# Altium integrated library Net.IntLib: 14 symbols
Pins are listed as number, name and electrical type; pins without a type are passive.

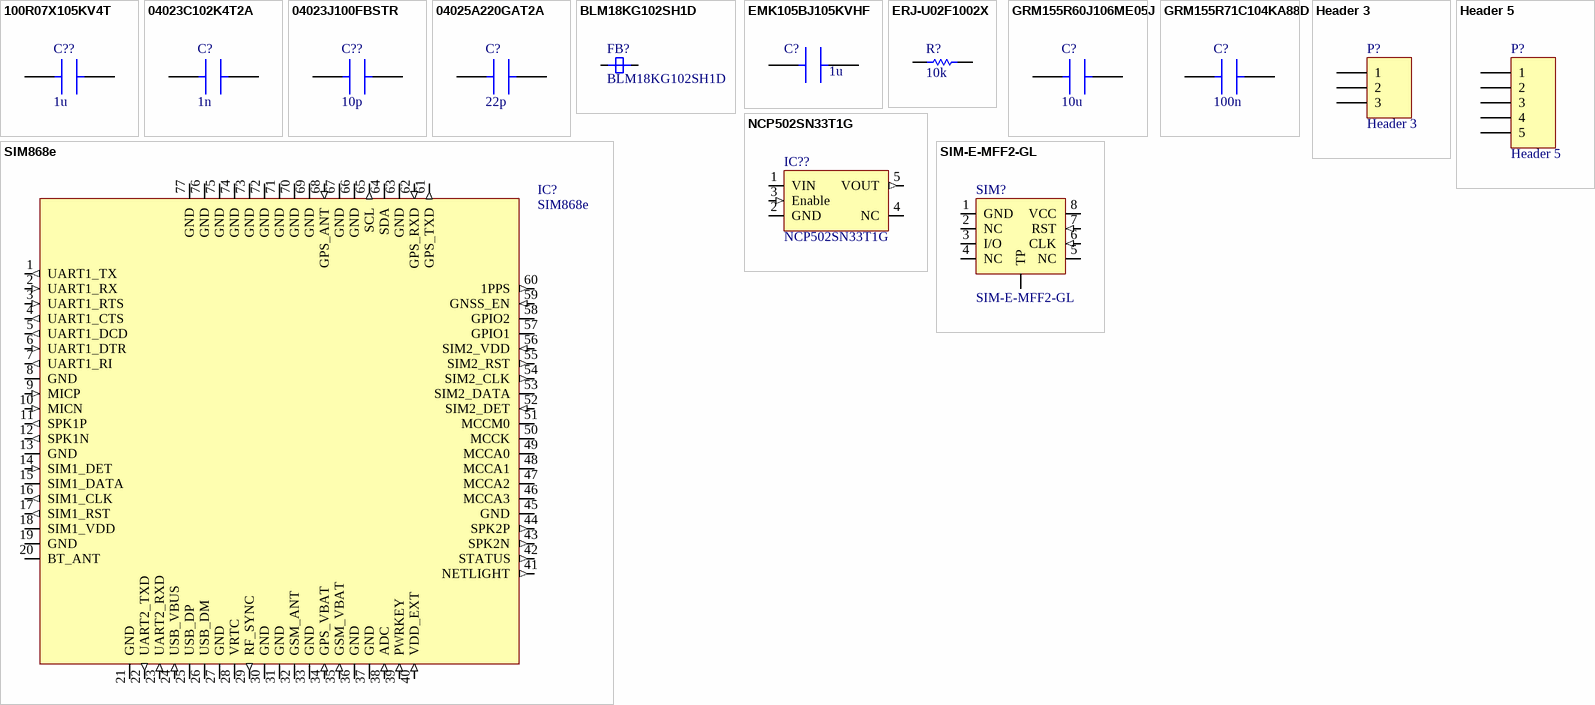
[diagram p0: symbols 100R07X105KV4T to SIM-E-MFF2-GL]

## 100R07X105KV4T
designator C??, comment 1u
Cap Ceramic 1uF 10V X5R 10% SMD 0402 85C T/R LOW ESR; Manufacturer: Johanson; Manufacturer Part Number: 100R07X105KV4T; Supplier 1: Mouser; RoHS: Yes; Category: Ceramic Capacitors; Stock 1: 216743; Pricing 1: 1=0,26000, 10=0,13400, 50=0,13400, 100=0,07600, 1000=0,04900, 10000=0,04000 (USD); Mount: Surface Mount; Case/Package: 0402; Number of Pins: 2; Case Code (Metric): 1005; Case Code (Imperial): 0402; Weight: 2.3E-05oz; Min Operating Temperature: -55°C; Max Operating Temperature: 85°C; Capacitance: 1uF; Tolerance: 10%; Voltage Rating: 10V; Packaging: Tape and Reel; Package Quantity: 10000; Voltage Rating (DC): 10V; Dielectric: X5R; Termination: SMD/SMT; Series: TANCERAM®; Length: 1.02mm; Width: 0.02inch; Height: 0.64mm; Thickness: 0.025inch; Depth: 0.51mm; Radiation Hardening: No; REACH SVHC: No SVHC; RoHS Compliant: Yes; ComponentLink1URL: https://datasheet.ciiva.com/22693/jdi-full-catalog-2012-01-22693744.pdf?src-supplier=Element14; ComponentLink1Description: https://datasheet.ciiva.com/22693/jdi-full-catalog-2012-01-22693744.pdf?src-supplier=Element14; ComponentLink2URL: https://datasheet.ciiva.com/26948/getdatasheetpartid-789067-26948543.pdf?src-supplier=Verical; ComponentLink2Description: https://datasheet.ciiva.com/26948/getdatasheetpartid-789067-26948543.pdf?src-supplier=Verical; Supplier Part Number 1: 605-100R07X105KV4T
footprint CAPC1005X06N (Chip Capacitor, 0402, 2-Leads, Body 1,02x0,50mm, IPC Medium Density)
pins: 1, 2

## 04023C102K4T2A
designator C?, comment 1n
Cap Ceramic 0.001uF 25V X7R 10% SMD 0402 125°C Paper T/R 1nF; Manufacturer: Kyocera AVX; Manufacturer Part Number: 04023C102K4T2A; Supplier 1: Digi-Key; RoHS: Yes; Category: Ceramic Capacitors; Stock 1: 34215; Pricing 1: 1=0,10000, 10=0,06700, 50=0,03640, 100=0,02960, 500=0,02118, 1000=0,01664, 2500=0,01512, 5000=0,01392 (USD); Case/Package: 0402; Dielectric: X7R; Voltage Rating (DC): 25V; Capacitance: 1nF; Tolerance: 10%; RoHS Compliant: Yes; Supplier Part Number 1: 478-04023C102K4T2ACT-ND
footprint CAPC1005X06N (Chip Capacitor, 0402, 2-Leads, Body 1,02x0,50mm, IPC Medium Density)
pins: 1, 2

## 04023J100FBSTR
designator C??, comment 10p
Multilayer Ceramic Capacitors MLCC - SMD/SMT 25V 10pF ThnFlm 0402 1% Tol; Manufacturer: Kyocera AVX; Manufacturer Part Number: 04023J100FBSTR; Supplier 1: Mouser; RoHS: Yes; Category: Film Capacitors; Stock 1: 1287; Pricing 1: 1=0,98000, 10=0,74000, 50=0,74000, 100=0,52900, 1000=0,35300, 10000=0,26100 (USD); Case/Package: 0402; Case Code (Imperial): 0402; Case Code (Metric): 1005; Weight: 2.3E-05oz; Min Operating Temperature: -55°C; Max Operating Temperature: 125°C; Voltage Rating (DC): 25V; Tolerance: 1%; Packaging: Tape and Reel; Termination: SMD/SMT; Resistor Type: Thin Film; Capacitance: 10pF; Length: 1mm; Width: 0.5mm; Height: 0.4mm; ComponentLink1URL: http://www.mouser.com/ds/2/40/avx_accuf-p-542740.pdf?src-supplier=Mouser; ComponentLink1Description: http://www.mouser.com/ds/2/40/avx_accuf-p-542740.pdf?src-supplier=Mouser; Supplier Part Number 1: 581-04023J100FBSTR
footprint CAPC1005X06N (Chip Capacitor, 0402, 2-Leads, Body 1,02x0,50mm, IPC Medium Density)
pins: 1, 2

## 04025A220GAT2A
designator C?, comment 22p
CAP CER 22PF 50V C0G/NP0 0402; Manufacturer: Kyocera AVX; Manufacturer Part Number: 04025A220GAT2A; Dielectric: C0G; Tolerance: 2%; Supplier 1: Digi-Key; RoHS: Yes; Category: Ceramic Capacitors; Stock 1: 14713; Pricing 1: 1=0,50000, 10=0,35200, 50=0,26600, 100=0,23170, 500=0,17160, 1000=0,14586, 2500=0,13728, 5000=0,12870 (USD); Mount: Surface Mount; Case/Package: 0402; Case Code (Metric): 1005; Case Code (Imperial): 0402; Min Operating Temperature: -55°C; Max Operating Temperature: 125°C; Packaging: Tape and Reel; Capacitance: 22pF; Package Quantity: 1; Voltage Rating (DC): 50V; Termination: SMD/SMT; Voltage Rating: 50V; Series: -; Construction: Flat; Length: 1mm; Width: 0.02inch; Height: 0.63mm; Depth: 0.5mm; Thickness: 0.022inch; Radiation Hardening: No; RoHS Compliant: Yes; Lead Free: Lead Free; ComponentLink1URL: https://datasheet.ciiva.com/7614/ccog-7614677.pdf?src-supplier=Digi-Key; ComponentLink1Description: https://datasheet.ciiva.com/7614/ccog-7614677.pdf?src-supplier=Digi-Key; ComponentLink2URL: https://datasheet.ciiva.com/17490/ccog-17490486.pdf?src-supplier=Avnet+Europe; ComponentLink2Description: https://datasheet.ciiva.com/17490/ccog-17490486.pdf?src-supplier=Avnet+Europe; ComponentLink3URL: https://datasheet.ciiva.com/5413/ccog-243403-5413992.pdf?src-supplier=Mouser; ComponentLink3Description: https://datasheet.ciiva.com/5413/ccog-243403-5413992.pdf?src-supplier=Mouser; ComponentLink4URL: https://datasheet.ciiva.com/210/ccog-210553.pdf?src-supplier=Digi-Key; ComponentLink4Description: https://datasheet.ciiva.com/210/ccog-210553.pdf?src-supplier=Digi-Key; ComponentLink5URL: https://datasheet.ciiva.com/11530/ccog-11530027.pdf?src-supplier=Avnet; ComponentLink5Description: https://datasheet.ciiva.com/11530/ccog-11530027.pdf?src-supplier=Avnet; ComponentLink6URL: https://datasheet.ciiva.com/14886/ccog-14886974.pdf?src-supplier=Digi-Key; ComponentLink6Description: https://datasheet.ciiva.com/14886/ccog-14886974.pdf?src-supplier=Digi-Key; Supplier Part Number 1: 478-7874-1-ND
footprint CAPC1005X06N (Chip Capacitor, 0402, 2-Leads, Body 1,02x0,50mm, IPC Medium Density)
pins: 1, 2

## BLM18KG102SH1D
designator FB?
Ferrite Beads Multi-Layer Power 1KOhm 25% 100MHz 1A 0.2Ohm DCR 0603 Automotive T/R; Manufacturer: Murata; Number of Lines: 1; DC Resistance (DCR): 200mR; Supplier 1: Digi-Key; Manufacturer Part Number: BLM18KG102SH1D; RoHS: Yes; Category: Ferrite Beads and Chips; Stock 1: 27011; Pricing 1: 1=0,10000, 10=0,07000, 25=0,06200, 50=0,05280, 100=0,04650, 250=0,04264, 500=0,03876, 1000=0,03255 (USD); Mount: Surface Mount; Case/Package: 0603; Case Code (Imperial): 0603; Case Code (Metric): 1608; Min Operating Temperature: -55°C; Max Operating Temperature: 125°C; Packaging: Cut Tape; Max Current Rating: 1A; Ratings: AEC-Q200; RoHS Compliant: Yes; ComponentLink1URL: https://www.murata.com/en-us/products/productdata/8796737372190/S0608E.pdf?src-supplier=Digi-Key; ComponentLink1Description: https://www.murata.com/en-us/products/productdata/8796737372190/S0608E.pdf?src-supplier=Digi-Key; ComponentLink2URL: https://www.murata.com/en-us/products/productdata/8796737273886/QNFA9101.pdf?src-supplier=Digi-Key; ComponentLink2Description: https://www.murata.com/en-us/products/productdata/8796737273886/QNFA9101.pdf?src-supplier=Digi-Key; Supplier Part Number 1: 490-17348-1-ND
pins: 3, 4

## EMK105BJ105KVHF
designator C?, comment 1u
TAIYO YUDEN - EMK105BJ105KVHF - CAPACITOR,CERAMIC,0402,16V,X5R,1 F, 10% ROHS COMPLIANT: YES; Capacitance: 1uF; Supplier 1: Mouser; Manufacturer: Taiyo Yuden; Manufacturer Part Number: EMK105BJ105KVHF; RoHS: Yes; Category: Ceramic Capacitors; Stock 1: 62407; Pricing 1: 1=0,10000, 10=0,06700, 50=0,06700, 100=0,02900, 1000=0,01500, 10000=0,01100 (USD); Mount: Surface Mount; Case/Package: 0402; Case Code (Metric): 1005; Case Code (Imperial): 0402; Weight: 2.3E-05oz; Min Operating Temperature: -55°C; Max Operating Temperature: 85°C; Voltage Rating: 16V; Package Quantity: 10000; Packaging: Tape and Reel; Tolerance: 10%; Dielectric: X5R; Termination: SMD/SMT; Voltage Rating (DC): 16V; Length: 0.039inch; Width: 0.5mm; Height: 0.5mm; Thickness: 0.022inch; Ratings: AEC-Q200; Lead Free: Lead Free; Halogen Free: Halogen Free; RoHS Compliant: Yes; ComponentLink1URL: http://www.mouser.com/ds/2/396/mlcc11_hq_e-541564.pdf?src-supplier=Mouser; ComponentLink1Description: http://www.mouser.com/ds/2/396/mlcc11_hq_e-541564.pdf?src-supplier=Mouser; ComponentLink2URL: http://www.yuden.co.jp/eu/product/category/capacitor/putpdf/EMK105BJ105KVHF.pdf?src-supplier=Avnet; ComponentLink2Description: http://www.yuden.co.jp/eu/product/category/capacitor/putpdf/EMK105BJ105KVHF.pdf?src-supplier=Avnet; ComponentLink3URL: https://www.yuden.co.jp/productdata/catalog/mlcc01_hq_e.pdf?src-supplier=Digi-Key; ComponentLink3Description: https://www.yuden.co.jp/productdata/catalog/mlcc01_hq_e.pdf?src-supplier=Digi-Key; ComponentLink4URL: http://ds.yuden.co.jp/TYCOMPAS/ut/detail.do?productNo=EMK105BJ105KVHF&fileName=EMK105BJ105KVHF_SS&mode=specSheetDownload&src-supplier=Digi-Key; ComponentLink4Description: http://ds.yuden.co.jp/TYCOMPAS/ut/detail.do?productNo=EMK105BJ105KVHF&fileName=EMK105BJ105KVHF_SS&mode=specSheetDownload&src-supplier=Digi-Key; ComponentLink5URL: http://www.farnell.com/datasheets/2819903.pdf?src-supplier=Newark; ComponentLink5Description: http://www.farnell.com/datasheets/2819903.pdf?src-supplier=Newark; Supplier Part Number 1: 963-EMK105BJ105KVHF
footprint CAPC1005X06N (Chip Capacitor, 0420, 2-Leads, Body 1,02x0,50mm, IPC Medium Density)
pins: 1, 2

## ERJ-U02F1002X
designator R?, comment 10k
RES, THICK FILM, 10K, 1%, 0.1W, 0402, REEL; Product Range:AEC-Q200 ERJ Series; Resistance:10kohm; Power Rating:100mW; Resistance Tolerance: 1%; Voltage Rating:50V; Resistor Case Style:0402 [1005 Metric]; Packaging:Tape & Reel; MSL:-;RoHS Compliant: Yes; Manufacturer: Panasonic; Manufacturer Part Number: ERJ-U02F1002X; Resistance: 10kR; Power Rating: 100mW; Temperature Coefficient: 200ppm/°C; Voltage Rating: 50V; Current Rating: 1A; Supplier 1: Mouser; RoHS: Yes; Category: Chip SMD Resistors; Stock 1: 30000; Pricing 1: 1=0,10000, 10=0,05100, 50=0,05100, 100=0,02900, 1000=0,01600, 10000=0,01200 (USD); Mount: Surface Mount; Case/Package: 0402; Case Code (Imperial): 0402; Case Code (Metric): 1005; Weight: 2.8E-05oz; Min Operating Temperature: -55°C; Max Operating Temperature: 155°C; Packaging: Tape and Reel; Tolerance: 1%; Resistor Type: Thick Film; Termination: SMD/SMT; Package Quantity: 10000; Voltage Rating (DC): 50V; Length: 1mm; Width: 0.5mm; Height: 0.35mm; Radiation Hardening: No; RoHS Compliant: Yes; REACH SVHC: Unknown; ComponentLink1URL: https://datasheet.ciiva.com/29928/aoa0000ce5-29928150.pdf?src-supplier=Avnet; ComponentLink1Description: https://datasheet.ciiva.com/29928/aoa0000ce5-29928150.pdf?src-supplier=Avnet; ComponentLink2URL: https://datasheet.ciiva.com/28514/1783557-28514361.pdf?src-supplier=Element14; ComponentLink2Description: https://datasheet.ciiva.com/28514/1783557-28514361.pdf?src-supplier=Element14; ComponentLink3URL: https://datasheet.ciiva.com/28514/1783557-28514367.pdf?src-supplier=Element14; ComponentLink3Description: https://datasheet.ciiva.com/28514/1783557-28514367.pdf?src-supplier=Element14; Supplier Part Number 1: 667-ERJ-U02F1002X
footprint RESC1005X04N (Chip Resistor, 0402, 2-Leads, Body 1,00x0,50mm, IPC Medium Density)
pins: 1, 2

## GRM155R60J106ME05J
designator C?, comment 10u
SAMSUNG ELECTRO-MECHANICS - CL05A106MP5NUNC - SMD Multilayer Ceramic Capacitor, 10 µF, 10 V, 0402 [1005 Metric], ± 20%, X5R, CL Series; Manufacturer: Murata; Manufacturer Part Number: GRM155R60J106ME05J; Capacitance: 10uF; Voltage Rating: 10V; Supplier 1: Mouser; RoHS: Yes; Category: Ceramic Capacitors; Pricing 1: 1=0,15000, 10=0,11100, 50=0,11100, 100=0,05200, 1000=0,03000, 10000=0,02100 (USD); Supplier Part Number 1: 81-GRM155R60J106ME05; Supplier 2: Mouser; Stock 2: 93545; Pricing 2: 1=0,19000, 10=0,07900, 50=0,07900, 100=0,06700, 1000=0,04100, 10000=0,03100 (USD); Mount: Surface Mount; Case/Package: 0402; Case Code (Metric): 1005; Case Code (Imperial): 0402; Contact Plating: Tin; Min Operating Temperature: -55°C; Max Operating Temperature: 85°C; Packaging: Tape and Reel; Tolerance: 20%; Package Quantity: 1; Dielectric: X5R; Termination: Wraparound; Series: CL; Construction: Flat; Length: 1mm; Width: 0.02inch; Thickness: 0.028inch; Depth: 0.5mm; Radiation Hardening: No; RoHS Compliant: Yes; Lead Free: Lead Free; ComponentLink1URL: https://datasheet.ciiva.com/25721/cl05a106mp5nunc-25721584.pdf?src-supplier=Digi-Key; ComponentLink1Description: https://datasheet.ciiva.com/25721/cl05a106mp5nunc-25721584.pdf?src-supplier=Digi-Key; ComponentLink2URL: https://datasheet.ciiva.com/26838/getdatasheetpartid-745310-26838170.pdf?src-supplier=Verical; ComponentLink2Description: https://datasheet.ciiva.com/26838/getdatasheetpartid-745310-26838170.pdf?src-supplier=Verical; Supplier Part Number 2: 187-CL05A106MP5NUNC
footprint CAPC1005X06N (Chip Capacitor, 0402, 2-Leads, Body 1,02x0,50mm, IPC Medium Density)
pins: 1, 2

## GRM155R71C104KA88D
designator C?, comment 100n
CAP CER 0.1UF 16V X7R 0402; Manufacturer: Murata; Manufacturer Part Number: GRM155R71C104KA88D; Material: Ceramic; Capacitance: 100nF; Tolerance: 10%; Insulation Resistance: 10GR; Supplier 1: Mouser; RoHS: Yes; Category: Ceramic Capacitors; Stock 1: 8059685; Pricing 1: 1=0,10000, 10=0,01200, 50=0,01200, 100=0,01000, 1000=0,00600, 10000=0,00300 (USD); Mount: Surface Mount; Case/Package: 0402; Number of Pins: 2; Case Code (Metric): 1005; Case Code (Imperial): 0402; Dielectric Material: Ceramic; Min Operating Temperature: -55°C; Max Operating Temperature: 125°C; Dielectric: X7R; Voltage Rating: 16V; Packaging: Tape and Reel; Voltage Rating (DC): 16V; Package Quantity: 1; Termination: SMD/SMT; Voltage: 16V; Length: 1mm; Width: 0.5mm; Height: 0.5mm; Thickness: 0.022inch; Depth: 0.5mm; Radiation Hardening: No; REACH SVHC: No SVHC; Lead Free: Lead Free; RoHS Compliant: Yes; ComponentLink1URL: https://datasheet.ciiva.com/18102/getdatasheetpartid-85307-18102905.pdf?src-supplier=Verical; ComponentLink1Description: https://datasheet.ciiva.com/18102/getdatasheetpartid-85307-18102905.pdf?src-supplier=Verical; ComponentLink2URL: https://datasheet.ciiva.com/129/grm155r71c104ka88-01-129739.pdf?src-supplier=Digi-Key; ComponentLink2Description: https://datasheet.ciiva.com/129/grm155r71c104ka88-01-129739.pdf?src-supplier=Digi-Key; ComponentLink3URL: https://datasheet.ciiva.com/129/grm155r71c104ka88-01-129740.pdf?src-supplier=Digi-Key; ComponentLink3Description: https://datasheet.ciiva.com/129/grm155r71c104ka88-01-129740.pdf?src-supplier=Digi-Key; ComponentLink4URL: https://datasheet.ciiva.com/29199/454098-da-01-en-vs-kondensator-0402-29199799.pdf?src-supplier=Conrad; ComponentLink4Description: https://datasheet.ciiva.com/29199/454098-da-01-en-vs-kondensator-0402-29199799.pdf?src-supplier=Conrad; ComponentLink5URL: https://datasheet.ciiva.com/28534/4360-28534133.pdf?src-supplier=Element14; ComponentLink5Description: https://datasheet.ciiva.com/28534/4360-28534133.pdf?src-supplier=Element14; ComponentLink6URL: https://datasheet.ciiva.com/14103/grmseries-highdielectrictype-eng-14103750.pdf?src-supplier=Distrelec; ComponentLink6Description: https://datasheet.ciiva.com/14103/grmseries-highdielectrictype-eng-14103750.pdf?src-supplier=Distrelec; ComponentLink7URL: https://datasheet.ciiva.com/16199/product-16199000.pdf?src-supplier=Future+Electronics; ComponentLink7Description: https://datasheet.ciiva.com/16199/product-16199000.pdf?src-supplier=Future+Electronics; ComponentLink8URL: https://datasheet.ciiva.com/14116/grmseries-highdielectrictype-eng-14116878.pdf?src-supplier=Distrelec; ComponentLink8Description: https://datasheet.ciiva.com/14116/grmseries-highdielectrictype-eng-14116878.pdf?src-supplier=Distrelec; ComponentLink9URL: https://datasheet.ciiva.com/7937/4360-7937615.pdf?src-supplier=Element14; ComponentLink9Description: https://datasheet.ciiva.com/7937/4360-7937615.pdf?src-supplier=Element14; ComponentLink10URL: https://datasheet.ciiva.com/28534/4360-28534127.pdf?src-supplier=Element14; ComponentLink10Description: https://datasheet.ciiva.com/28534/4360-28534127.pdf?src-supplier=Element14; Supplier Part Number 1: 81-GRM155R71C104KA88
footprint CAPC1005X06N (Chip Capacitor, 0420, 2-Leads, Body 1,02x0,50mm, IPC Medium Density)
pins: 1, 2

## Header 3
designator P?
Header, 3-Pin; System: Connector; LatestRevisionDate: 17-Jul-2002; LatestRevisionNote: Re-released for DXP Platform.; Publisher: Altium Limited
footprint HDR1X3 (Connector; Header; 3 Position)
signal-integrity model Connector
pins: 1, 2, 3

## Header 5
designator P?
Header, 5-Pin; System: Connector; LatestRevisionDate: 17-Jul-2002; LatestRevisionNote: Re-released for DXP Platform.; Publisher: Altium Limited
footprint HDR1X5 (Connector; Header; 5 Position)
signal-integrity model Connector
pins: 1, 2, 3, 4, 5

## NCP502SN33T1G
designator IC??
IC REG LDO 3.3V 80MA 5TSOPwith enable; Manufacturer: ON Semiconductor; Max Input Voltage: 12V; Dropout Voltage: 850mV; Number of Outputs: 1; Min Input Voltage: 4.3V; Max Output Current: 180mA; Input Bias Current: 40uA; Polarity: Positive; Quiescent Current: 1uA; Accuracy: 2%; Output Type: Fixed; Max Supply Current: 90uA; Power Supply Rejection Ratio (PSRR): 55dB; Supplier 1: Digi-Key; Manufacturer Part Number: NCP502SN33T1G; RoHS: Yes; Category: Voltage Regulators - Linear; Stock 1: 920; Pricing 1: 1=0,61000, 10=0,53500, 25=0,50280, 100=0,38110, 250=0,32436, 500=0,30814, 1000=0,23516 (USD); Mount: Surface Mount; Case/Package: TSOP; Number of Pins: 5; Min Operating Temperature: -40°C; Max Operating Temperature: 85°C; Package Quantity: 1; Packaging: Tape and Reel; Output Voltage: 3.3V; Output Current: 80mA; Number of Regulators: 1; Min Output Voltage: 3.3V; Output Voltage Accuracy: 2%; Output Configuration: Positive; Series: -; Length: 3mm; Width: 1.5mm; Height: 1mm; Radiation Hardening: No; Lead Free: Lead Free; Halogen Free: Halogen Free; RoHS Compliant: Yes; ComponentLink1URL: https://datasheet.ciiva.com/30477/0900766b8124f89a-30477036.pdf?src-supplier=RSComponents; ComponentLink1Description: https://datasheet.ciiva.com/30477/0900766b8124f89a-30477036.pdf?src-supplier=RSComponents; ComponentLink2URL: https://datasheet.ciiva.com/2060/ncp502-d-2060061.pdf?src-supplier=Digi-Key; ComponentLink2Description: https://datasheet.ciiva.com/2060/ncp502-d-2060061.pdf?src-supplier=Digi-Key; ComponentLink3URL: https://datasheet.ciiva.com/8230/ncp502-d-8230381.pdf?src-supplier=Avnet; ComponentLink3Description: https://datasheet.ciiva.com/8230/ncp502-d-8230381.pdf?src-supplier=Avnet; ComponentLink4URL: https://datasheet.ciiva.com/2060/ncp502-d-2060062.pdf?src-supplier=Digi-Key; ComponentLink4Description: https://datasheet.ciiva.com/2060/ncp502-d-2060062.pdf?src-supplier=Digi-Key; Supplier Part Number 1: 488-NCP502SN33T1GCT-ND
pins: 1 VIN (power), 2 GND (power), 3 Enable (in), 4 NC, 5 VOUT (out)

## SIM868e
designator IC?
Sim 828e
pins: 1 UART1_TX (out), 2 UART1_RX (in), 3 UART1_RTS (in), 4 UART1_CTS (out), 5 UART1_DCD (out), 6 UART1_DTR (in), 7 UART1_RI (out), 8 GND (power), 9 MICP (in), 10 MICN (in), 11 SPK1P (out), 12 SPK1N (out), 13 GND (power), 14 SIM1_DET (in), 15 SIM1_DATA (io), 16 SIM1_CLK (out), 17 SIM1_RST (out), 18 SIM1_VDD, 19 GND (power), 20 BT_ANT (io), 21 GND (power), 22 UART2_TXD (out), 23 UART2_RXD (in), 24 USB_VBUS (in), 25 USB_DP (io), 26 USB_DM (io), 27 GND (power), 28 VRTC (io), 29 RF_SYNC (out), 30 GND (power), 31 GND (power), 32 GSM_ANT (io), 33 GND (power), 34 GPS_VBAT (in), 35 GSM_VBAT (in), 36 GND (power), 37 GND (power), 38 ADC (in), 39 PWRKEY (in), 40 VDD_EXT (in), 41 NETLIGHT (out), 42 STATUS (out), 43 SPK2N (out), 44 SPK2P (out), 45 GND (power), 46 MCCA3 (io), 47 MCCA2 (io), 48 MCCA1 (io), 49 MCCA0 (io), 50 MCCK (io), 51 MCCM0 (io), 52 SIM2_DET (in), 53 SIM2_DATA (io), 54 SIM2_CLK (out), 55 SIM2_RST (out), 56 SIM2_VDD (in), 57 GPIO1 (io), 58 GPIO2 (io), 59 GNSS_EN (in), 60 1PPS (out), 61 GPS_TXD (out), 62 GPS_RXD (in), 63 GND (power), 64 SDA (io), 65 SCL (out), 66 GND (power), 67 GND (power), 68 GPS_ANT (in), 69 GND (power), 70 GND (power), 71 GND (power), 72 GND (power), 73 GND (power), 74 GND (power), 75 GND (power), 76 GND (power), 77 GND (power)

## SIM-E-MFF2-GL
designator SIM?
Manufacturer: Hologram; Supplier 1: Digi-Key; Manufacturer Part Number: SIM-E-MFF2-GL; RoHS: No; Stock 1: 2884; Pricing 1: 1=5,43000, 10=4,87900, 25=4,61240, 100=3,99750, 250=3,79248, 500=3,40300 (USD); Supplier Part Number 1: 1887-SIM-E-MFF2-GLCT-ND
footprint MFF2 SIM (SIM-E-MFF2-GL footprint)
pins: 1 GND (power), 2 NC, 3 I/O (io), 4 NC, 5 NC, 6 CLK (in), 7 RST (in), 8 VCC (power), 9 TP